# Altium schematic symbol library DriverBoard.SchLib: 36 symbols
Pins are listed as number, name and electrical type; pins without a type are passive.

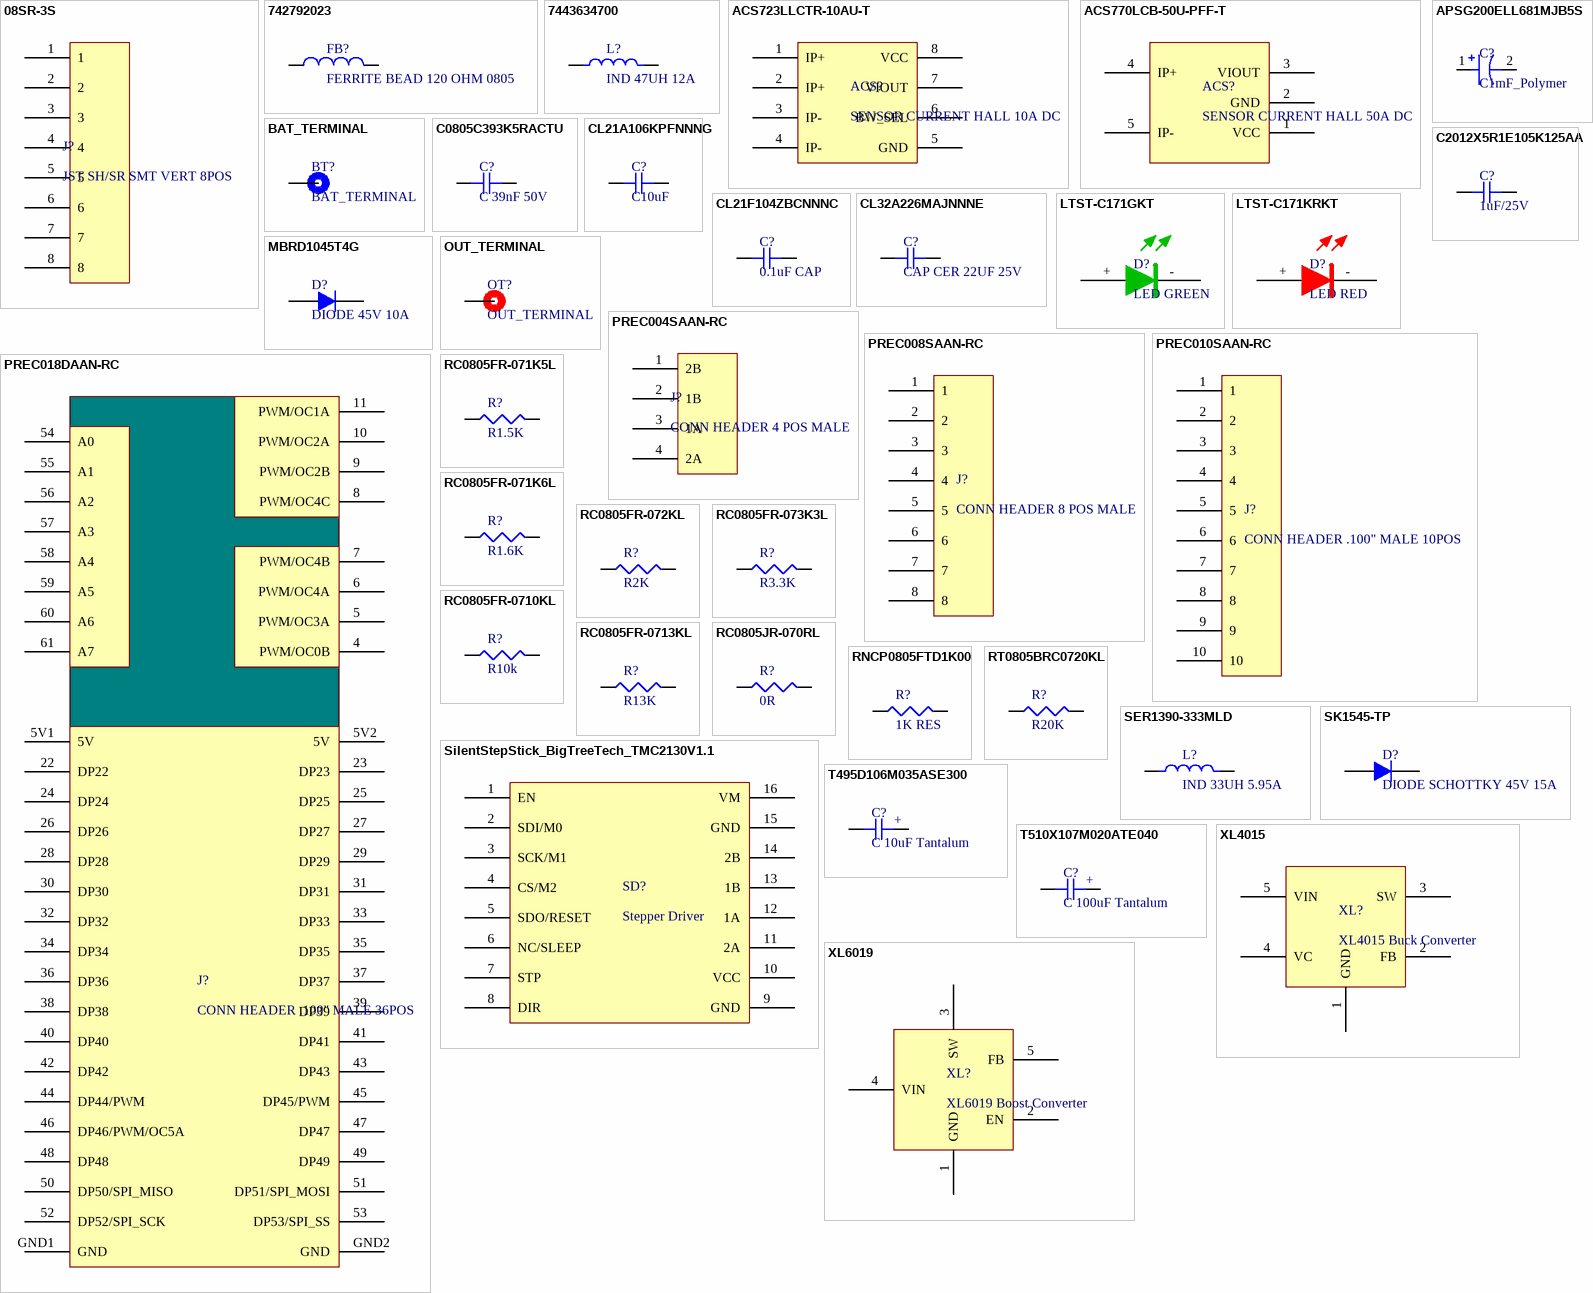
[diagram p0: symbols 08SR-3S to XL6019]

## 08SR-3S
designator J?, comment JST SH/SR SMT VERT 8POS
CONN RCPT SR 8 POS 1.0MM TIN; Manufacturer Part Number: 08SR-3S; Connector Type: Receptacle; Number of Positions: 8; Pitch: 0.039" (1.00mm); Cable Termination: IDC; Wire Type: Discrete; Wire Gauge: 30 AWG; Supplier 1: Digi-Key; Manufacturer: JST; Stock 1: 1705; Pricing 1: 1=0.55, 10=0.512, 25=0.4612, 50=0.4098, 100=0.3928, 250=0.3586, 500=0.3416, 1000=0.2818, 2500=0.2562 (USD); Category: Connectors, Interconnects; Family: Rectangular Connectors - Free Hanging, Panel Mount; Series: SR; Packaging: Bulk; Contact Type: Female Socket; Number of Rows: 1; Row Spacing: -; Mounting Type: Free Hanging (In-Line); Fastening Type: -; Features: Closed End; Contact Finish: Tin; Contact Finish Thickness: -; Color: Natural; ComponentLink1URL: http://www.jst-mfg.com/product/pdf/eng/eSR.pdf?src-supplier=Digi-Key; ComponentLink1Description: http://www.jst-mfg.com/product/pdf/eng/eSR.pdf?src-supplier=Digi-Key; Supplier Part Number 1: 455-2189-ND
footprint JST_SH_8
pins: 1, 2, 3, 4, 5, 6, 7, 8

## 742792023
designator FB?, comment FERRITE BEAD 120 OHM 0805
FERRITE BEAD 120 OHM 0805 1LN; Manufacturer: Wurth Electronics; Manufacturer Part Number: 742792023; Current Rating: 3A; Inductance: 1H; Tolerance: 25%; Impedance: 120R; Number of Lines: 1; DC Resistance (DCR): 30mR; Test Frequency: 100MHz; Shielding: Unshielded; Supplier 1: Digi-Key; Stock 1: 64621; Pricing 1: 1=0.22, 50=0.21, 100=0.193, 500=0.185, 1000=0.176, 2000=0.168 (USD); Mount: Surface Mount; Case/Package: SMD/SMT; Weight: 0.000388oz; Core Material: Ferrite; Case Code (Metric): 2012; Case Code (Imperial): 0805; Min Operating Temperature: -55°C; Max Operating Temperature: 125°C; Package Quantity: 1; Packaging: Tape and Reel; Max Current Rating: 3A; Max DC Current: 3A; Termination: SMD/SMT; Length: 2mm; Height: 0.9mm; Width: 0.047inch; Depth: 1.2mm; REACH SVHC: Unknown; Lead Free: Lead Free; ComponentLink1URL: https://katalog.we-online.de/pbs/datasheet/742792023.pdf?src-supplier=Digi-Key; ComponentLink1Description: https://katalog.we-online.de/pbs/datasheet/742792023.pdf?src-supplier=Digi-Key; ComponentLink2URL: http://www.farnell.com/datasheets/1695980.pdf?src-supplier=Element14; ComponentLink2Description: http://www.farnell.com/datasheets/1695980.pdf?src-supplier=Element14; ComponentLink3URL: http://www.farnell.com/datasheets/1919974.pdf?src-supplier=Newark; ComponentLink3Description: http://www.farnell.com/datasheets/1919974.pdf?src-supplier=Newark; ComponentLink4URL: http://documents.rs-components.com/techlib://itc_doclist_GB.htm?stockno=3586771&src-supplier=RSComponents; ComponentLink4Description: http://documents.rs-components.com/techlib://itc_doclist_GB.htm?stockno=3586771&src-supplier=RSComponents; ComponentLink5URL: http://www.mouser.com/ds/2/445/742792023-537937.pdf?src-supplier=Mouser; ComponentLink5Description: http://www.mouser.com/ds/2/445/742792023-537937.pdf?src-supplier=Mouser; ComponentLink6URL: http://www.produktinfo.conrad.com/datenblaetter/1000000-1099999/001086956-da-01-ml-WE_CBF_SMD_FERRIT_742792023_de_en.pdf?src-supplier=Conrad; ComponentLink6Description: http://www.produktinfo.conrad.com/datenblaetter/1000000-1099999/001086956-da-01-ml-WE_CBF_SMD_FERRIT_742792023_de_en.pdf?src-supplier=Conrad; Supplier Part Number 1: 732-1613-1-ND
footprint FB_0805
pins: 1, 2

## 7443634700
designator L?, comment IND 47UH 12A
FIXED IND 47UH 12A 12.2 MOHM SMD; Manufacturer: Wurth Electronics; Manufacturer Part Number: 7443634700; Featured Product: WE-HCF SMD High-Current Inductor; 3D Model: WE-HCF_2013.igs WE-HCF_2013.stp; Type: Wirewound; Material - Core: Ferrite; Inductance: 47µH; Tolerance: ±15%; Current - Saturation: 8.5A; Shielding: Shielded; Frequency - Self Resonant: 10MHz; Frequency - Test: 100kHz; Online Catalog: WE-HCF 2013 Series; Related Products: 296-27163-5-ND / - IC REG CTRLR MULT TOP 20TSSOP / 296-24092-2-ND / - IC REG CTRLR MULT TOP 20TSSOP / 296-24092-1-ND / - IC REG CTRLR MULT TOP 20TSSOP / 296-24092-6-ND / - IC REG CTRLR MULT TOP 20TSSOP; Other Names: 732-2525-1; Supplier 1: Digi-Key; Stock 1: 1344; Pricing 1: 1=6.93, 10=6.804, 50=6.048 (USD); Standard Package: 1; Category: Inductors, Coils, Chokes; Family: Fixed Inductors; Series: WE-HCF; Packaging: Cut Tape (CT); Current Rating: 12A; DC Resistance (DCR): 12.2 mOhm; Operating Temperature: -40°C ~ 125°C; Mounting Type: Surface Mount; Package / Case: Nonstandard; Size / Dimension: 0.858" L x 0.846" W (21.80mm x 21.50mm); Height - Seated (Max): 0.571" (14.50mm); ComponentLink1URL: http://www.farnell.com/datasheets/1243408.pdf?src-supplier=Newark; ComponentLink1Description: http://www.farnell.com/datasheets/1243408.pdf?src-supplier=Newark; ComponentLink2URL: http://katalog.we-online.de/pbs/datasheet/7443634700.pdf?src-supplier=Digi-Key; ComponentLink2Description: http://katalog.we-online.de/pbs/datasheet/7443634700.pdf?src-supplier=Digi-Key; ComponentLink3URL: http://www.mouser.com/ds/2/445/7443634700-538650.pdf?src-supplier=Mouser; ComponentLink3Description: http://www.mouser.com/ds/2/445/7443634700-538650.pdf?src-supplier=Mouser; ComponentLink4URL: http://documents.rs-components.com/techlib://itc_doclist_GB.htm?stockno=7445062&src-supplier=RSComponents; ComponentLink4Description: http://documents.rs-components.com/techlib://itc_doclist_GB.htm?stockno=7445062&src-supplier=RSComponents; ComponentLink5URL: http://www.farnell.com/datasheets/1735814.pdf?src-supplier=Element14; ComponentLink5Description: http://www.farnell.com/datasheets/1735814.pdf?src-supplier=Element14; Supplier Part Number 1: 732-2525-1-ND
footprint 22X22X15IND
pins: 1, 2

## ACS723LLCTR-10AU-T
designator ACS?, comment SENSOR CURRENT HALL 10A DC
Manufacturer: Allegro MicroSystems; Manufacturer Part Number: ACS723LLCTR-10AU-T; Sensor Type: Hall Effect, Open Loop; Number of Channels: 1; Output: Ratiometric, Voltage; Sensitivity: 400mV/A; Frequency: DC ~ 80kHz; Linearity: ±1%; Accuracy: ±3%; Voltage - Supply: 5V; Response Time: 5µs; Current - Supply (Max): 14mA; Polarization: Unidirectional; Supplier 1: Digi-Key; Stock 1: 1781; Pricing 1: 1=5.27, 5=4.654, 10=4.11, 25=3.3348, 50=2.947, 100=2.8694, 500=2.4041, 1000=2.249 (USD); Category: Sensors, Transducers; Family: Current Transducers; Series: -; Packaging: Tape & Reel (TR); For Measuring: DC; Current - Sensing: 10A; Operating Temperature: -40°C ~ 150°C; Mounting Type: Surface Mount; Package / Case: 8-SOIC (0.154", 3.90mm Width); ComponentLink1URL: http://www.allegromicro.com/~/media/Files/Datasheets/ACS723-Datasheet.ashx?src-supplier=Digi-Key; ComponentLink1Description: http://www.allegromicro.com/~/media/Files/Datasheets/ACS723-Datasheet.ashx?src-supplier=Digi-Key; ComponentLink2URL: https://www.allegromicro.com/~/media/Files/Datasheets/ACS723-Datasheet.ashx?src-supplier=Digi-Key; ComponentLink2Description: https://www.allegromicro.com/~/media/Files/Datasheets/ACS723-Datasheet.ashx?src-supplier=Digi-Key; Supplier Part Number 1: 620-1643-1-ND
footprint SOIC_8
pins: 1 IP+, 2 IP+, 3 IP-, 4 IP-, 5 GND, 6 BW_SEL, 7 VIOUT, 8 VCC

## ACS770LCB-50U-PFF-T
designator ACS?, comment SENSOR CURRENT HALL 50A DC
Manufacturer: Allegro MicroSystems; Manufacturer Part Number: ACS770LCB-50U-PFF-T; Number of Channels: 1; Frequency: 120kHz; Response Time: 4.6us; Max Supply Current: 15mA; Polarity: Unidirectional; Linearity: 1%; Accuracy: 0.6%; Sensitivity: 80mV/A; Quiescent Current: 10mA; Supplier 1: Digi-Key; Stock 1: 1184; Pricing 1: 1=7.18, 5=6.3, 10=5.67, 34=5.04, 68=4.6621, 102=4.032, 510=3.78, 1020=3.528 (USD); Mount: Through Hole; Number of Pins: 5; Min Operating Temperature: -40°C; Max Operating Temperature: 150°C; Packaging: Rail/Tube; Current Sensing: 50A; Package Quantity: 34; Bandwidth: 120kHz; Supplier Part Number 1: 620-1542-5-ND
footprint PFF5
pins: 1 VCC, 2 GND, 3 VIOUT, 4 IP+, 5 IP-

## APSG200ELL681MJB5S
designator C?, comment C1mF_Polymer
Cap Aluminum Polymer 680uF 20VDC 20% (10 X 11.5mm) Radial 5mm 0.012 Ohm 5400mA 2000h 105C Bulk; Manufacturer: United Chemi-Con; Manufacturer Part Number: APSG200ELL681MJB5S; Featured Product: Chemi-Con / PSG Series; Capacitance: 680µF; Voltage Rating: 20V; Lifetime @ Temp.: 15000 Hrs @ 105°C; Online Catalog: NPCAP™ PSG Series; Other Names: 565-3623 APSG200ELL681MJB5S-ND; Supplier 1: Digi-Key; Stock 1: 499; Pricing 1: 1=2.14, 10=1.73, 100=1.3209, 500=1.0064, 1000=0.8806, 2500=0.8554 (USD); Standard Package: 500; Category: Capacitors; Family: Aluminum - Polymer Capacitors; Series: NPCAP™-PSG; Packaging: Bulk; Tolerance: ±20%; ESR (Equivalent Series Resistance): -; Operating Temperature: -55°C ~ 105°C; Type: Polymer; Applications: -; Ripple Current: -; Impedance: -; Lead Spacing: 0.197" (5.00mm); Size / Dimension: 0.394" Dia (10.00mm); Height - Seated (Max): 0.512" (13.00mm); Surface Mount Land Size: -; Mounting Type: Through Hole; Package / Case: Radial, Can; Supplier Part Number 1: 565-3623-ND
footprint POLY_CAP_10X21
pins: 1, 2

## BAT_TERMINAL
designator BT?
footprint BATTERY_TERMINALS
pins: 1

## C0805C393K5RACTU
designator C?, comment C 39nF 50V
Multilayer Ceramic Capacitors 50volts 39000pF X7R 10%; Manufacturer: KEMET; Manufacturer Part Number: C0805C393K5RACTU; Capacitance Value: 0.039 uF; Voltage: 50 Vdc; Product Length: 2 mm; Product Height: 0.78 mm; Product Depth: 1.25 mm; Supplier 1: Digi-Key; Stock 1: 17723; Pricing 1: 1=0.23, 10=0.155, 100=0.0784, 500=0.0536, 1000=0.0474 (USD); Package/Case: 0805; Mounting: Surface Mount; Tolerance: 10 %; Dielectric: X7R; Operating Temperature: -55 to 125 °C; Construction: Flat; Category: Capacitor Ceramic Multilayer; ComponentLink1URL: http://www.mouser.com/ds/2/212/KEM_C1002_X7R_SMD-1102033.pdf?src-supplier=Mouser; ComponentLink1Description: http://www.mouser.com/ds/2/212/KEM_C1002_X7R_SMD-1102033.pdf?src-supplier=Mouser; Supplier Part Number 1: 399-8076-1-ND
footprint C0805
pins: 1, 2

## C2012X5R1E105K125AA
designator C?, comment 1uF/25V
CAP CER 1UF 25V X5R 0805; Manufacturer: TDK Corporation; Manufacturer Part Number: C2012X5R1E105K125AA; Tolerance: ±10%; Notification: Current market demand for these product types have resulted in fluctuating and extending lead times. Lead times may differ.; Supplier 1: Digi-Key; RoHS: RoHS Compliant; Category: Capacitors; Stock 1: 774565; Pricing 1: 1=0.18, 10=0.129, 100=0.0605, 500=0.04244, 1000=0.03514 (USD); Packaging: Cut Tape (CT); Part Status: Not For New Designs; Voltage - Rated: 25V; Temperature Coefficient: X5R; Operating Temperature: -55°C ~ 85°C; Features: Low ESL; Ratings: -; Applications: General Purpose; Failure Rate: -; Mounting Type: Surface Mount, MLCC; Package / Case: 0805 (2012 Metric); Size / Dimension: 0.079" L x 0.049" W (2.00mm x 1.25mm); Height - Seated (Max): -; Thickness (Max): 0.057" (1.45mm); Lead Spacing: -; Lead Style: -; ComponentLink1URL: https://product.tdk.com/info/en/catalog/datasheets/mlcc_commercial_general_en.pdf; ComponentLink1Description: https://product.tdk.com/info/en/catalog/datasheets/mlcc_commercial_general_en.pdf; Supplier Part Number 1: 445-1419-1-ND
footprint C0805
pins: 1, 2

## CL21A106KPFNNNG
designator C?, comment C10uF
Cap Ceramic 10uF 10V X5R 10% SMD 0805 85C Embossed T/R; Manufacturer: Samsung; Manufacturer Part Number: CL21A106KPFNNNG; Supplier 1: Digi-Key; Stock 1: 184536; Pricing 1: 1=0.14, 10=0.1, 100=0.0469, 500=0.0329, 1000=0.0272 (USD); Mount: Surface Mount; Case/Package: 0805; Case Code (Metric): 2012; Case Code (Imperial): 0805; Min Operating Temperature: -55°C; Max Operating Temperature: 85°C; Capacitance: 10uF; Tolerance: 10%; Dielectric: X5R; Voltage: 10V; Voltage Rating: 10V; Packaging: Tape and Reel; Package Quantity: 3000; Termination: Wraparound; Length: 2mm; Height: 1.25mm; Depth: 1.25mm; Width: 0.049inch; Thickness: 0.053inch; Radiation Hardening: No; Lead Free: Lead Free; ComponentLink1URL: http://www1.futureelectronics.com/doc/SAMSUNG/CL21A106KPFNNNG.pdf?src-supplier=Future+Electronics; ComponentLink1Description: http://www1.futureelectronics.com/doc/SAMSUNG/CL21A106KPFNNNG.pdf?src-supplier=Future+Electronics; ComponentLink2URL: https://www.verical.com/server-webapp/html/getDatasheet?partID=640497&src-supplier=Verical; ComponentLink2Description: https://www.verical.com/server-webapp/html/getDatasheet?partID=640497&src-supplier=Verical; Supplier Part Number 1: 1276-6456-1-ND
footprint C0805
pins: 1, 2

## CL21F104ZBCNNNC
designator C?, comment 0.1uF CAP
Cap Ceramic 0.1uF 50V Y5V -20% to 80% SMD 0805 85C Paper T/R; Manufacturer: Samsung; Manufacturer Part Number: CL21F104ZBCNNNC; Capacitance: 100nF; Supplier 1: Digi-Key; Stock 1: 5269056; Pricing 1: 1=0.1, 10=0.044, 100=0.0195, 500=0.0139, 1000=0.0109 (USD); Mount: Surface Mount; Case/Package: 0805; Case Code (Metric): 2012; Case Code (Imperial): 0805; Material: Ceramic; Min Operating Temperature: -30°C; Max Operating Temperature: 85°C; Packaging: Tape and Reel; Tolerance: 80%; Voltage Rating: 50V; Package Quantity: 1; Dielectric: Y5V; Length: 2mm; Height: 0.85mm; Width: 0.049inch; Thickness: 0.037inch; Depth: 1.25mm; Radiation Hardening: No; ComponentLink1URL: https://www.verical.com/server-webapp/html/getDatasheet?partID=466953&src-supplier=Verical; ComponentLink1Description: https://www.verical.com/server-webapp/html/getDatasheet?partID=466953&src-supplier=Verical; ComponentLink2URL: https://produktinfo.conrad.com/datenblaetter/450000-474999/454191-da-01-en-VS_KONDENSATOR_0805.pdf?src-supplier=Conrad; ComponentLink2Description: https://produktinfo.conrad.com/datenblaetter/450000-474999/454191-da-01-en-VS_KONDENSATOR_0805.pdf?src-supplier=Conrad; Supplier Part Number 1: 1276-1007-1-ND
footprint C0805
pins: 1, 2

## CL32A226MAJNNNE
designator C?, comment CAP CER 22UF 25V
CAP CER 22UF 25V X5R 1210; Manufacturer: Samsung; Manufacturer Part Number: CL32A226MAJNNNE; Product Training Modules: High Cap MLCC Family; Featured Product: Multi-Layer Ceramic Capacitors; Capacitance: 22µF; Tolerance: ±20%; Online Catalog: CL Series, High Capacitance; Other Names: 1276-3373-2; Supplier 1: Digi-Key; Stock 1: 57875; Pricing 1: 1=0.58, 10=0.412, 100=0.2715, 500=0.2011 (USD); RoHS Information: MLCC RoHS 2 Compliance; Standard Package: 1,000; Category: Capacitors; Family: Ceramic Capacitors; Series: CL; Packaging: Tape & Reel (TR); Voltage - Rated: 25V; Temperature Coefficient: X5R; Mounting Type: Surface Mount, MLCC; Operating Temperature: -55°C ~ 85°C; Applications: General Purpose; Ratings: -; Package / Case: 1210 (3225 Metric); Size / Dimension: 0.126" L x 0.098" W (3.20mm x 2.50mm); Height - Seated (Max): -; Thickness (Max): 0.106" (2.70mm); Lead Spacing: -; Features: -; Lead Style: -; ComponentLink1URL: http://www.samsungsem.com/kr/support/product-search/mlcc/CL32A226MAJNNNE.jsp?src-supplier=Digi-Key; ComponentLink1Description: http://www.samsungsem.com/kr/support/product-search/mlcc/CL32A226MAJNNNE.jsp?src-supplier=Digi-Key; Supplier Part Number 1: 1276-3373-1-ND
footprint C1210
pins: 1, 2

## LTST-C171GKT
designator D?, comment LED GREEN
LED GREEN CLEAR CHIP SMD; Manufacturer: Vishay Lite-On; Manufacturer Part Number: LTST-C171GKT; Lens Color: Colorless; Viewing Angle: 130°; Lens Style: Diffused,Colorless,Rectangular,Clear; Luminous Intensity: 12mcd; Forward Current: 30mA; Forward Voltage: 2.1V; Power Rating: 100mW; Dominant Wavelength: 569nm; Test Current: 10mA; Number of Elements: 1; Wavelength: 585nm; Reverse Voltage: 5V; Supplier 1: Digi-Key; Stock 1: 262269; Pricing 1: 1=0.29, 10=0.211, 25=0.1556, 100=0.1111, 250=0.0756, 500=0.0667, 1000=0.0522 (USD); Mount: Surface Mount; Case/Package: 0805; Number of Pins: 2; Color: Green; Case Code (Metric): 2012; Case Code (Imperial): 0805; Min Operating Temperature: -55°C; Max Operating Temperature: 85°C; Package Quantity: 1; Packaging: Tape and Reel; Illumination Color: Green; Lens Transparency: Clear; Power Dissipation: 100mW; Number of LEDs: 1; Length: 2mm; Height: 0.8mm; Width: 1.25mm; Depth: 1.25mm; Radiation Hardening: No; Lead Free: Lead Free; ComponentLink1URL: https://media.digikey.com/pdf/Data%20Sheets/Lite-On%20PDFs/LTST-C171GKT.pdf?src-supplier=Digi-Key; ComponentLink1Description: https://media.digikey.com/pdf/Data%20Sheets/Lite-On%20PDFs/LTST-C171GKT.pdf?src-supplier=Digi-Key; ComponentLink2URL: http://www1.futureelectronics.com/doc/LITE-ON/LTST-C171GKT.pdf?src-supplier=Future+Electronics; ComponentLink2Description: http://www1.futureelectronics.com/doc/LITE-ON/LTST-C171GKT.pdf?src-supplier=Future+Electronics; ComponentLink3URL: http://uk.rs-online.com/webdocs/0dc0/0900766b80dc0296.pdf?src-supplier=RSComponents; ComponentLink3Description: http://uk.rs-online.com/webdocs/0dc0/0900766b80dc0296.pdf?src-supplier=RSComponents; ComponentLink4URL: http://www.mouser.com/ds/2/239/Lite-On-LTST-C171GKT-190133.pdf?src-supplier=Mouser; ComponentLink4Description: http://www.mouser.com/ds/2/239/Lite-On-LTST-C171GKT-190133.pdf?src-supplier=Mouser; Supplier Part Number 1: 160-1423-1-ND
footprint LED_0805
pins: +, -

## LTST-C171KRKT
designator D?, comment LED RED
LED RED CLEAR SMD; Manufacturer: Vishay Lite-On; Manufacturer Part Number: LTST-C171KRKT; Chip Material: AlGaInP; DELETED: Compliant; Dominant Wave Length: 631 nm; Forward Current: 30 mA; Forward Voltage: 2.4 V; High Brightness: Yes; Lum Intensity: 54mcd; Main Category: Chip LED; Number of  Elements: 1; Peak Wavelength: 639 nm; Power Dissipation: 75 W; Product Depth (mm): 1.25 mm; Product Height (mm): 0.8 mm; Product Length (mm): 2 mm; Rad Hardened: No; Reverse Voltage: 5 V; Shape Type: Rectangular; Test Current (It): 20 mA; Type: Uni-Color; Viewing Angle: 130 deg; Supplier 1: Digi-Key; Stock 1: 82154; Pricing 1: 1=0.29, 10=0.215, 100=0.1016, 500=0.0677, 1000=0.0531 (USD); Emitting Color: Red; Lens Dimensions: 1.4x1.25x0.5 mm; Luminous Intensity: 54mcd; Mounting: Surface Mount; Operating Temp Range: -55C to 85C; Operating Temperature Classification: Industrial; Package Type: Chip Led; Packaging: Tape and Reel; Pin Count: 2; ComponentLink1URL: http://optoelectronics.liteon.com/upload/download/DS22-2000-109/LTST-C171KRKT.pdf?src-supplier=Digi-Key; ComponentLink1Description: http://optoelectronics.liteon.com/upload/download/DS22-2000-109/LTST-C171KRKT.pdf?src-supplier=Digi-Key; ComponentLink2URL: http://www.mouser.com/ds/2/239/Lite-On-LTST-C171KRKT-187201.pdf?src-supplier=Mouser; ComponentLink2Description: http://www.mouser.com/ds/2/239/Lite-On-LTST-C171KRKT-187201.pdf?src-supplier=Mouser; ComponentLink3URL: http://uk.rs-online.com/webdocs/0dc0/0900766b80dc0550.pdf?src-supplier=RSComponents; ComponentLink3Description: http://uk.rs-online.com/webdocs/0dc0/0900766b80dc0550.pdf?src-supplier=RSComponents; ComponentLink4URL: http://www1.futureelectronics.com/doc/LITE%20ON/LITE-ON%20LTST-C171KRKT.pdf?src-supplier=Future+Electronics; ComponentLink4Description: http://www1.futureelectronics.com/doc/LITE%20ON/LITE-ON%20LTST-C171KRKT.pdf?src-supplier=Future+Electronics; Supplier Part Number 1: 160-1427-1-ND
footprint LED_0805
pins: +, -

## MBRD1045T4G
designator D?, comment DIODE 45V 10A
DIODE SCHOTTKY 45V 10A DPAK; Manufacturer: ON Semiconductor; Manufacturer Part Number: MBRD1045T4G; PCN Assembly/Origin: Qualification Assembly/Test Site 13/Mar/2014; Voltage - Forward (Vf) (Max) @ If: 840mV @ 20A; Speed: Fast Recovery =  200mA (Io); Current - Reverse Leakage @ Vr: 100µA @ 45V; Online Catalog: Schottky Diode; Other Names: MBRD1045T4GOSDKR; Supplier 1: Digi-Key; Stock 1: 4441; Pricing 1: 1=0.72, 10=0.631, 100=0.4299, 500=0.3592, 1000=0.3057 (USD); Standard Package: 1; Category: Discrete Semiconductor Products; Family: Diodes, Rectifiers - Single; Series: SWITCHMODE™; Packaging: Digi-Reel®; Diode Type: Schottky; Voltage - DC Reverse (Vr) (Max): 45V; Current - Average Rectified (Io): 10A; Reverse Recovery Time (trr): -; Capacitance @ Vr, F: -; Mounting Type: Surface Mount; Package / Case: TO-252-3, DPak (2 Leads + Tab), SC-63; Supplier Device Package: DPAK; Operating Temperature - Junction: -65°C ~ 175°C; ComponentLink1URL: http://www.onsemi.cn/pub_link/Collateral/MBRB1045-D.PDF?src-supplier=Avnet; ComponentLink1Description: http://www.onsemi.cn/pub_link/Collateral/MBRB1045-D.PDF?src-supplier=Avnet; ComponentLink2URL: http://uk.rs-online.com/webdocs/1221/0900766b812212c8.pdf?src-supplier=RSComponents; ComponentLink2Description: http://uk.rs-online.com/webdocs/1221/0900766b812212c8.pdf?src-supplier=RSComponents; ComponentLink3URL: http://www.onsemi.com/pub/Collateral/MBRB1045-D.PDF?src-supplier=Future+Electronics; ComponentLink3Description: http://www.onsemi.com/pub/Collateral/MBRB1045-D.PDF?src-supplier=Future+Electronics; ComponentLink4URL: http://www.onsemi.com/pub/Collateral/MBRB1045-D.PDF?src-supplier=Digi-Key; ComponentLink4Description: http://www.onsemi.com/pub/Collateral/MBRB1045-D.PDF?src-supplier=Digi-Key; ComponentLink5URL: http://www.onsemi.cn/pub_link/Collateral/MBRB1045-D.PDF?src-supplier=Avnet+Europe; ComponentLink5Description: http://www.onsemi.cn/pub_link/Collateral/MBRB1045-D.PDF?src-supplier=Avnet+Europe; ComponentLink6URL: http://datasheet.iiic.cc/on_semiconductor/MBRD1045T4G.pdf?src-supplier=IIIC; ComponentLink6Description: http://datasheet.iiic.cc/on_semiconductor/MBRD1045T4G.pdf?src-supplier=IIIC; Supplier Part Number 1: MBRD1045T4GOSCT-ND
footprint TO252_3
pins: 1, 2

## OUT_TERMINAL
designator OT?
footprint OUTPUT_TERMINALS
pins: 1

## PREC004SAAN-RC
designator J?, comment CONN HEADER 4 POS MALE
CONN HEADER VERT 4POS 2.54MM; Manufacturer: Sullins; Manufacturer Part Number: PREC004SAAN-RC; Connector Type: Header, Unshrouded, Breakaway; Number of Positions: 4; Number of Positions Loaded: All; Pitch: 0.100" (2.54mm); Online Catalog: 0.100" (2.54mm) Pitch Connector Headers; Other Names: S9499E-04  S9499E-04-ND; Supplier 1: Digi-Key; Stock 1: 2480; Pricing 1: 1=0.12, 10=0.112, 25=0.0832, 50=0.0712, 100=0.0689, 250=0.0594, 500=0.057 (USD); Standard Package: 1; Category: Connectors, Interconnects; Family: Rectangular Connectors - Headers, Male Pins; Series: -; Packaging: Bulk; Contact Type: Male Pin; Number of Rows: 1; Row Spacing: -; Contact Mating Length: 0.230" (5.84mm); Mounting Type: Through Hole; Termination: Solder; Fastening Type: -; Features: -; Contact Finish: Tin; Contact Finish Thickness: -; Color: Black; ComponentLink1URL: https://media.digikey.com/PDF/Data%20Sheets/Sullins%20PDFs/z%20RzCzzzSzzN-RC,%20ST,11635-B.pdf?src-supplier=Digi-Key; ComponentLink1Description: https://media.digikey.com/PDF/Data%20Sheets/Sullins%20PDFs/z%20RzCzzzSzzN-RC,%20ST,11635-B.pdf?src-supplier=Digi-Key; Supplier Part Number 1: S1012EC-04-ND
footprint DIP4
pins: 1 2B, 2 1B, 3 1A, 4 2A

## PREC008SAAN-RC
designator J?, comment CONN HEADER 8 POS MALE
Manufacturer: Sullins; Manufacturer Part Number: PREC008SAAN-RC; Connector Type: Header, Unshrouded, Breakaway; Number of Positions: 8; Number of Positions Loaded: All; Pitch: 0.100" (2.54mm); Online Catalog: 0.100" (2.54mm) Pitch Connector Headers; Other Names: S9499E-08  S9499E-08-ND; Supplier 1: Digi-Key; Stock 1: 3273; Pricing 1: 1=0.19, 10=0.178, 25=0.152, 50=0.133, 100=0.1236, 250=0.1093, 500=0.1045 (USD); Standard Package: 1; Category: Connectors, Interconnects; Family: Rectangular Connectors - Headers, Male Pins; Series: -; Packaging: Bulk; Contact Type: Male Pin; Number of Rows: 1; Row Spacing: -; Contact Mating Length: 0.230" (5.84mm); Mounting Type: Through Hole; Termination: Solder; Fastening Type: -; Features: -; Contact Finish: Tin; Contact Finish Thickness: -; Color: Black; ComponentLink1URL: https://media.digikey.com/PDF/Data%20Sheets/Sullins%20PDFs/z%20RzCzzzSzzN-RC,%20ST,11635-B.pdf?src-supplier=Digi-Key; ComponentLink1Description: https://media.digikey.com/PDF/Data%20Sheets/Sullins%20PDFs/z%20RzCzzzSzzN-RC,%20ST,11635-B.pdf?src-supplier=Digi-Key; Supplier Part Number 1: S1012EC-08-ND
footprint DIP8_MALE
pins: 1, 2, 3, 4, 5, 6, 7, 8

## PREC010SAAN-RC
designator J?, comment CONN HEADER .100" MALE 10POS
CONN HEADER .100" SNGL STR 10POS; Manufacturer: Sullins; Manufacturer Part Number: PREC010SAAN-RC; Connector Type: Header, Unshrouded, Breakaway; Number of Positions: 10; Number of Positions Loaded: All; Pitch: 0.100" (2.54mm); Online Catalog: 0.100" (2.54mm) Pitch Connector Headers; Other Names: S9499E-10  S9499E-10-ND; Supplier 1: Digi-Key; Stock 1: 2265; Pricing 1: 1=0.24, 10=0.223, 25=0.19, 50=0.1664, 100=0.1544, 250=0.1366, 500=0.1307 (USD); Standard Package: 1; Category: Connectors, Interconnects; Family: Rectangular Connectors - Headers, Male Pins; Series: -; Packaging: Bulk; Contact Type: Male Pin; Number of Rows: 1; Row Spacing: -; Contact Mating Length: 0.230" (5.84mm); Mounting Type: Through Hole; Termination: Solder; Fastening Type: -; Features: -; Contact Finish: Tin; Contact Finish Thickness: -; Color: Black; ComponentLink1URL: https://media.digikey.com/PDF/Data%20Sheets/Sullins%20PDFs/z%20RzCzzzSzzN-RC,%20ST,11635-B.pdf?src-supplier=Digi-Key; ComponentLink1Description: https://media.digikey.com/PDF/Data%20Sheets/Sullins%20PDFs/z%20RzCzzzSzzN-RC,%20ST,11635-B.pdf?src-supplier=Digi-Key; Supplier Part Number 1: S1012EC-10-ND
footprint DIP10_MALE
pins: 1, 2, 3, 4, 5, 6, 7, 8, 9, 10

## PREC018DAAN-RC
designator J?, comment CONN HEADER .100" MALE 36POS
CONN HEADER .100" DUAL STR 36POS; Manufacturer: Sullins; Manufacturer Part Number: PREC018DAAN-RC; Connector Type: Header, Unshrouded, Breakaway; Number of Positions: 36; Number of Positions Loaded: All; Pitch: 0.100" (2.54mm); Online Catalog: 0.100" (2.54mm) Pitch Connector Headers; Other Names: S9500E-18  S9500E-18-ND; Supplier 1: Digi-Key; Stock 1: 154; Pricing 1: 1=0.69, 10=0.643, 25=0.5788, 50=0.5146, 100=0.4931, 250=0.4502, 500=0.4288 (USD); Standard Package: 1; Category: Connectors, Interconnects; Family: Rectangular Connectors - Headers, Male Pins; Series: -; Packaging: Bulk; Contact Type: Male Pin; Number of Rows: 2; Row Spacing: 0.100" (2.54mm); Contact Mating Length: 0.230" (5.84mm); Mounting Type: Through Hole; Termination: Solder; Fastening Type: -; Features: -; Contact Finish: Tin; Contact Finish Thickness: -; Color: Black; ComponentLink1URL: https://drawings-pdf.s3.amazonaws.com/11636.pdf?src-supplier=Digi-Key; ComponentLink1Description: https://drawings-pdf.s3.amazonaws.com/11636.pdf?src-supplier=Digi-Key; Supplier Part Number 1: S2012EC-18-ND
footprint DIP36_MALE
pins: 4 PWM/OC0B, 5 PWM/OC3A, 5V1 5V, 5V2 5V, 6 PWM/OC4A, 7 PWM/OC4B, 8 PWM/OC4C, 9 PWM/OC2B, 10 PWM/OC2A, 11 PWM/OC1A, 22 DP22, 23 DP23, 24 DP24, 25 DP25, 26 DP26, 27 DP27, 28 DP28, 29 DP29, 30 DP30, 31 DP31, 32 DP32, 33 DP33, 34 DP34, 35 DP35, 36 DP36, 37 DP37, 38 DP38, 39 DP39, 40 DP40, 41 DP41, 42 DP42, 43 DP43, 44 DP44/PWM, 45 DP45/PWM, 46 DP46/PWM/OC5A, 47 DP47, 48 DP48, 49 DP49, 50 DP50/SPI_MISO, 51 DP51/SPI_MOSI, 52 DP52/SPI_SCK, 53 DP53/SPI_SS, 54 A0, 55 A1, 56 A2, 57 A3, 58 A4, 59 A5, 60 A6, 61 A7, GND1 GND, GND2 GND

## RC0805FR-071K5L
designator R?, comment R1.5K
RES SMD 1.5K OHM 1% 1/8W 0805; Manufacturer: Yageo; Manufacturer Part Number: RC0805FR-071K5L; Voltage Rating: 150V; Resistor Case Style: 0805 [2012 Metric]; Power Rating: 250mW; Product Range: RC Series; Resistor Element Type: Thick Film; Temperature Coefficient: ± 100ppm/°C; SVHC: To Be Advised; Supplier 1: Digi-Key; Stock 1: 2063144; Pricing 1: 1=0.1, 10=0.04, 100=0.0163, 1000=0.0073, 2500=0.0064 (USD); Resistance: 1.5kohm; Resistance Tolerance: ± 1%; Packaging: Cut Tape; Automotive Qualification Standard: -; MSL: MSL 1 - Unlimited; ComponentLink1URL: http://www.yageo.ru/pdf/RC0805.pdf?src-supplier=Future+Electronics; ComponentLink1Description: http://www.yageo.ru/pdf/RC0805.pdf?src-supplier=Future+Electronics; Supplier Part Number 1: 311-1.50KCRCT-ND
footprint R0805
pins: 1, 2

## RC0805FR-071K6L
designator R?, comment R1.6K
RES SMD 1.6K OHM 1% 1/8W 0805; Manufacturer: Yageo; Manufacturer Part Number: RC0805FR-071K6L; Resistance: 1.6 kOhms; Power Rating: 125 mW (1/8 W); Voltage Rating: 150 V; Temperature Coefficient: 100 PPM / C; Supplier 1: Digi-Key; Stock 1: 362810; Pricing 1: 1=0.1, 10=0.04, 100=0.0163, 1000=0.0073, 2500=0.0064 (USD); Termination Style: SMD/SMT; Product: Thick Film Resistors General Purpose; Tolerance: 1 %; Case Code - in: 0805; Case Code - mm: 2012; Series: RC; Operating Temperature Range: - 55 C to + 155 C; Packaging: Reel; ComponentLink1URL: http://documents.rs-components.com/techlib://itc_doclist_GB.htm?stockno=6183678&src-supplier=RSComponents; ComponentLink1Description: http://documents.rs-components.com/techlib://itc_doclist_GB.htm?stockno=6183678&src-supplier=RSComponents; Supplier Part Number 1: 311-1.60KCRCT-ND
footprint R0805
pins: 1, 2

## RC0805FR-072KL
designator R?, comment R2K
RES SMD 2K OHM 1% 1/8W 0805; Manufacturer: Yageo; Manufacturer Part Number: RC0805FR-072KL; Resistance: 2 kOhms; Power Rating: 125 mW (1/8 W); Voltage Rating: 150 V; Temperature Coefficient: 100 PPM / C; Supplier 1: Digi-Key; Stock 1: 3991887; Pricing 1: 1=0.1, 10=0.04, 100=0.0163, 1000=0.0073, 2500=0.0064 (USD); Termination Style: SMD/SMT; Product: Thick Film Resistors General Purpose; Tolerance: 1 %; Case Code - in: 0805; Case Code - mm: 2012; Series: RC; Operating Temperature Range: - 55 C to + 155 C; Packaging: Reel; ComponentLink1URL: http://www.yageo.com/documents/recent/PYu-RC_Group_51_RoHS_L_10.pdf?src-supplier=Digi-Key; ComponentLink1Description: http://www.yageo.com/documents/recent/PYu-RC_Group_51_RoHS_L_10.pdf?src-supplier=Digi-Key; ComponentLink2URL: http://www.yageo.com/documents/recent/PYu-RC_Group_51_RoHS_L_9.pdf?src-supplier=Digi-Key; ComponentLink2Description: http://www.yageo.com/documents/recent/PYu-RC_Group_51_RoHS_L_9.pdf?src-supplier=Digi-Key; ComponentLink3URL: http://documents.rs-components.com/techlib://itc_doclist_GB.htm?stockno=6182912&src-supplier=RSComponents; ComponentLink3Description: http://documents.rs-components.com/techlib://itc_doclist_GB.htm?stockno=6182912&src-supplier=RSComponents; ComponentLink4URL: http://www.farnell.com/datasheets/2167052.pdf?src-supplier=Element14; ComponentLink4Description: http://www.farnell.com/datasheets/2167052.pdf?src-supplier=Element14; ComponentLink5URL: http://www.mouser.com/ds/2/447/Yageo_08112016_RC0805-968729.pdf?src-supplier=Mouser; ComponentLink5Description: http://www.mouser.com/ds/2/447/Yageo_08112016_RC0805-968729.pdf?src-supplier=Mouser; Supplier Part Number 1: 311-2.00KCRCT-ND
footprint R0805
pins: 1, 2

## RC0805FR-073K3L
designator R?, comment R3.3K
RES SMD 3.3K OHM 1% 1/8W 0805; Manufacturer: Yageo; Manufacturer Part Number: RC0805FR-073K3L; Resistance: 3.3 kOhms; Power Rating: 125 mW (1/8 W); Temperature Coefficient: 100 PPM / C; Voltage Rating: 150 V; Unit Weight: 0.000194 oz; Supplier 1: Digi-Key; Stock 1: 641518; Pricing 1: 1=0.1, 10=0.04, 100=0.0163, 1000=0.0073, 2500=0.0064 (USD); Product Category: Thick Film Resistors; RoHS: True; Brand: Yageo; Tolerance: 1 %; Case Code - in: 0805; Case Code - mm: 2012; Operating Temperature Range: - 55 C to + 155 C; Series: RC; Height: 0.5 mm; Length: 2 mm; Package / Case: 0805 (2012 metric); Packaging: Reel; Product: Thick Film Resistors General Purpose; Termination Style: SMD/SMT; Type: General Purpose Chip Resistor Surface Mount; Width: 1.25 mm; ComponentLink1URL: http://www.farnell.com/datasheets/2167052.pdf?src-supplier=Element14; ComponentLink1Description: http://www.farnell.com/datasheets/2167052.pdf?src-supplier=Element14; ComponentLink2URL: http://www.yageo.com/documents/recent/PYu-RC_Group_51_RoHS_L_9.pdf?src-supplier=Digi-Key; ComponentLink2Description: http://www.yageo.com/documents/recent/PYu-RC_Group_51_RoHS_L_9.pdf?src-supplier=Digi-Key; ComponentLink3URL: http://www.yageo.com/documents/recent/PYu-RC_Group_51_RoHS_L_10.pdf?src-supplier=Digi-Key; ComponentLink3Description: http://www.yageo.com/documents/recent/PYu-RC_Group_51_RoHS_L_10.pdf?src-supplier=Digi-Key; ComponentLink4URL: http://www.yageo.ru/pdf/RC0805.pdf?src-supplier=Future+Electronics; ComponentLink4Description: http://www.yageo.ru/pdf/RC0805.pdf?src-supplier=Future+Electronics; ComponentLink5URL: http://www.mouser.com/ds/2/447/RC0805-257173.pdf?src-supplier=Mouser; ComponentLink5Description: http://www.mouser.com/ds/2/447/RC0805-257173.pdf?src-supplier=Mouser; Supplier Part Number 1: 311-3.30KCRCT-ND
footprint R0805
pins: 1, 2

## RC0805FR-0710KL
designator R?, comment R10k
RES SMD 10K OHM 1% 1/8W 0805; Manufacturer: Yageo; Manufacturer Part Number: RC0805FR-0710KL; Power (Watts): 0.125W, 1/8W; Temperature Coefficient: ±100ppm/°C; Supplier 1: Digi-Key; RoHS: RoHS Compliant; Category: Resistors; Stock 1: 19497418; Pricing 1: 1=0.1, 10=0.022, 100=0.0088, 1000=0.00396, 2500=0.00344 (USD); Packaging: Cut Tape (CT); Part Status: Active; Tolerance: ±1%; Composition: Thick Film; Features: Moisture Resistant; Operating Temperature: -55°C ~ 155°C; Package / Case: 0805 (2012 Metric); Supplier Device Package: 0805; Size / Dimension: 0.079" L x 0.049" W (2.00mm x 1.25mm); Height - Seated (Max): 0.024" (0.60mm); Failure Rate: -; ComponentLink1URL: http://www.yageo.com/documents/recent/PYu-RC_Group_51_RoHS_L_8.pdf; ComponentLink1Description: http://www.yageo.com/documents/recent/PYu-RC_Group_51_RoHS_L_8.pdf; Supplier Part Number 1: 311-10.0KCRCT-ND
footprint R0805
pins: 1, 2

## RC0805FR-0713KL
designator R?, comment R13K
RES SMD 13K OHM 1% 1/8W 0805; Manufacturer: Yageo; Manufacturer Part Number: RC0805FR-0713KL; Product Training Modules: Chip Resistor; Catalog Drawings: Thick Film Resistor Side; PCN Other: RC/AC 0603/0805/1206 22/Jan/2013; HTML Datasheet: RC Series, L Suffix Datasheet.html; EDA / CAD Models: Download from Accelerated Designs; Power (Watts): 0.125W, 1/8W; Temperature Coefficient: ±100ppm/°C; Online Catalog: RC0805 Series; Kits: PHC5A-KIT-ND  - RESISTOR KIT 10K-97.6K 1/8W PHC5-KIT-ND  - RESISTOR KIT 10K-97.6K 1/8W; Other Names: 311-13.0KCRCT; Supplier 1: Digi-Key; Stock 1: 335103; Pricing 1: 1=0.1, 10=0.04, 100=0.0163, 1000=0.0073, 2500=0.0064 (USD); Standard Package: 1; Category: Resistors; Family: Chip Resistor - Surface Mount; Series: RC; Packaging: Cut Tape (CT); Resistance (Ohms): 13k; Tolerance: ±1%; Composition: Thick Film; Features: Moisture Resistant; Operating Temperature: -55°C ~ 155°C; Package / Case: 0805 (2012 Metric); Supplier Device Package: 0805; Size / Dimension: 0.079" L x 0.049" W (2.00mm x 1.25mm); Height: 0.024" (0.60mm); Number of Terminations: 2; ComponentLink1URL: http://documents.rs-components.com/techlib://itc_doclist_GB.htm?stockno=6185337&src-supplier=RSComponents; ComponentLink1Description: http://documents.rs-components.com/techlib://itc_doclist_GB.htm?stockno=6185337&src-supplier=RSComponents; ComponentLink2URL: http://www.yageo.com.tw/exep/pages/download/literatures/PYu-R_INT-thick_7.pdf?src-supplier=Digi-Key; ComponentLink2Description: http://www.yageo.com.tw/exep/pages/download/literatures/PYu-R_INT-thick_7.pdf?src-supplier=Digi-Key; ComponentLink3URL: http://www.yageo.com/documents/recent/PYu-RC_Group_51_RoHS_L_9.pdf?src-supplier=Digi-Key; ComponentLink3Description: http://www.yageo.com/documents/recent/PYu-RC_Group_51_RoHS_L_9.pdf?src-supplier=Digi-Key; ComponentLink4URL: http://www.yageo.ru/pdf/RC0805.pdf?src-supplier=Future+Electronics; ComponentLink4Description: http://www.yageo.ru/pdf/RC0805.pdf?src-supplier=Future+Electronics; ComponentLink5URL: https://www.verical.com/server-webapp/html/getDatasheet?partID=329342&src-supplier=Verical; ComponentLink5Description: https://www.verical.com/server-webapp/html/getDatasheet?partID=329342&src-supplier=Verical; Supplier Part Number 1: 311-13.0KCRCT-ND
footprint R0805
pins: 1, 2

## RC0805JR-070RL
designator R?, comment 0R
RES SMD 0 OHM JUMPER 1/8W 0805; Manufacturer: Yageo; Manufacturer Part Number: RC0805JR-070RL; Power (Watts): 0.125W, 1/8W; Supplier 1: Digi-Key; RoHS: RoHS Compliant; Category: Resistors; Stock 1: 699255; Pricing 1: 1=0.1, 10=0.018, 25=0.0128, 50=0.0096, 100=0.0071, 250=0.00544, 500=0.00436, 1000=0.00321 (USD); Packaging: Cut Tape (CT); Part Status: Active; Tolerance: Jumper; Composition: Thick Film; Features: Moisture Resistant; Temperature Coefficient: -; Operating Temperature: -55°C ~ 155°C; Package / Case: 0805 (2012 Metric); Supplier Device Package: 0805; Size / Dimension: 0.079" L x 0.049" W (2.00mm x 1.25mm); Height - Seated (Max): 0.024" (0.60mm); Failure Rate: -; ComponentLink1URL: http://www.yageo.com/documents/recent/PYu-RC_Group_51_RoHS_L_8.pdf; ComponentLink1Description: http://www.yageo.com/documents/recent/PYu-RC_Group_51_RoHS_L_8.pdf; Supplier Part Number 1: 311-0.0ARCT-ND
footprint R0805
pins: 1, 2

## RNCP0805FTD1K00
designator R?, comment 1K RES
RES 1K OHM 1% 1/4W 0805; Manufacturer: Stackpole Electronics; Manufacturer Part Number: RNCP0805FTD1K00; Resistance: 1kR; Power Rating: 250mW; Temperature Coefficient: 100ppm/°C; Supplier 1: Digi-Key; Stock 1: 626879; Pricing 1: 1=0.1, 10=0.072, 100=0.0277, 1000=0.0122, 2500=0.0105 (USD); Mount: Surface Mount; Case/Package: 0805; Case Code (Metric): 2012; Case Code (Imperial): 0805; Min Operating Temperature: -55°C; Max Operating Temperature: 155°C; Tolerance: 1%; Packaging: Tape and Reel; Composition: Thin Film; Number of Terminations: 2; Max Power Dissipation: 250mW; Features: Moisture Resistant,Anti-Sulfur; Length: 0.079inch; Height: 0.024inch; Width: 0.049inch; Lead Free: Lead Free; Supplier Part Number 1: RNCP0805FTD1K00DKR-ND
footprint R0805
pins: 1, 2

## RT0805BRC0720KL
designator R?, comment R20K
RES SMD 20K OHM 0.1% 1/8W 0805; Manufacturer: Yageo; Manufacturer Part Number: RT0805BRC0720KL; Resistance: 20 kOhms; Power Rating: 125 mW (1/8 W); Temperature Coefficient: 15 PPM / C; Voltage Rating: 150 V; Unit Weight: 0.000194 oz; Supplier 1: Digi-Key; Stock 1: 3964; Pricing 1: 1=0.81, 10=0.674, 100=0.4527, 1000=0.2649, 2500=0.2562 (USD); Product Category: Thin Film Resistors - SMD; RoHS: True; Tolerance: 0.1 %; Case Code - in: 0805; Case Code - mm: 2012; Operating Temperature Range: - 55 C to + 125 C; Series: RT; Packaging: Reel; Brand: Yageo; Height: 0.5 mm; Length: 2 mm; Package / Case: 0805 (2012 metric); Product: Thin Film Resistors SMD; Termination Style: SMD/SMT; Type: High Precision, High Stability; Width: 1.25 mm; ComponentLink1URL: http://www.yageo.com/documents/recent/PYu-RT_1-to-0.01_RoHS_L_9.pdf?src-supplier=Digi-Key; ComponentLink1Description: http://www.yageo.com/documents/recent/PYu-RT_1-to-0.01_RoHS_L_9.pdf?src-supplier=Digi-Key; ComponentLink2URL: http://www.mouser.com/ds/2/447/PYu-RT_1-to-0.05_RoHS_L_4-14067.pdf?src-supplier=Mouser; ComponentLink2Description: http://www.mouser.com/ds/2/447/PYu-RT_1-to-0.05_RoHS_L_4-14067.pdf?src-supplier=Mouser; Supplier Part Number 1: 311-20KNFCT-ND
footprint R0805
pins: 1, 2

## SER1390-333MLD
designator L?, comment IND 33UH 5.95A
COILCRAFT   SER1390-333MLD   INDUCTOR, 33UH, 5.95A, 20%, 15.7MHZ,REEL; SVHC: To Be Advised; Product Range: COILCRAFT - SER1390 Series; Inductance: 33µH; DC Resistance Max: 0.0231ohm; Inductor Case Style: SMD; Core Material: Ferrite; Supplier 1: Mouser; Manufacturer: Coilcraft; Manufacturer Part Number: SER1390-333MLD; Stock 1: 434; Pricing 1: 1=2.66, 10=2.37, 50=2.13, 100=1.9, 200=1.76, 300=1.49, 900=1.4, 1800=1.28 (USD); Inductance Tolerance: ± 20%; DC Current Rating: 5.95A; Self Resonant Frequency: 15.7MHz; MSL: MSL 1 - Unlimited; ComponentLink1URL: http://www.farnell.com/datasheets/1722556.pdf?src-supplier=Element14; ComponentLink1Description: http://www.farnell.com/datasheets/1722556.pdf?src-supplier=Element14; Supplier Part Number 1: 994-SER1390-333MLD
footprint 13X13X9IND
pins: 1, 2

## SilentStepStick_BigTreeTech_TMC2130V1.1
designator SD?, comment Stepper Driver
TMC2130, DRV8825, TB67S109, A4988
footprint DIP16_Stepper
pins: 1 EN, 2 SDI/M0, 3 SCK/M1, 4 CS/M2, 5 SDO/RESET, 6 NC/SLEEP, 7 STP, 8 DIR, 9 GND, 10 VCC, 11 2A, 12 1A, 13 1B, 14 2B, 15 GND, 16 VM

## SK1545-TP
designator D?, comment DIODE SCHOTTKY 45V 15A
DIODE SCHOTTKY 45V 15A DO214AB; Manufacturer: MCC; Manufacturer Part Number: SK1545-TP; Max Surge Current: 275 A; Maximum Reverse Leakage Current: 1 mA; Supplier 1: Digi-Key; Stock 1: 49764; Pricing 1: 1=0.95, 10=0.851, 100=0.6056, 500=0.5134 (USD); Forward Continuous Current: 15 A; Operating Temperature Range: - 55 C to + 125 C; Mounting Style: SMD/SMT; RoHS: Details; Product: Schottky Rectifiers; Peak Reverse Voltage: 45 V; Package / Case: DO-214AB; Packaging: Reel; ComponentLink1URL: http://www.mccsemi.com/up_pdf/SK152-SK1510(HSMC).PDF?src-supplier=Digi-Key; ComponentLink1Description: http://www.mccsemi.com/up_pdf/SK152-SK1510(HSMC).PDF?src-supplier=Digi-Key; ComponentLink2URL: https://www.verical.com/server-webapp/html/getDatasheet?partID=548008&src-supplier=Verical; ComponentLink2Description: https://www.verical.com/server-webapp/html/getDatasheet?partID=548008&src-supplier=Verical; Supplier Part Number 1: SK1545-TPCT-ND
footprint DO214_DIODE
pins: 1, 2

## T495D106M035ASE300
designator C?, comment C 10uF Tantalum
Tantalum Capacitors - Solid SMD 35volts 10uF 20% ESR=300mOhms; Manufacturer: KEMET; Manufacturer Part Number: T495D106M035ASE300; Mfr Case Code: D; Voltage Rating: 35 V; Voltage Rating DC: 35 VDC; Unit Weight: 0.023634 oz; Supplier 1: Mouser; Stock 1: 0; Product Category: Tantalum Capacitors - Solid SMD; RoHS: True; Brand: Kemet; Capacitance: 10 uF; Tolerance: 20 %; ESR: 300 mOhms; Case Code - in: 2917; Case Code - mm: 7343; Height: 4.3 mm; Operating Temperature Range: - 55 C to + 125 C; Series: T495; Length: 7.3 mm; Maximum Operating Temperature: + 125 C; Minimum Operating Temperature: - 55 C; Package / Case: 2917 (7343 metric); Packaging: Reel; Product: Tantalum Solid Low ESR Automotive Grade; Termination Style: SMD/SMT; Width: 4.3 mm; ComponentLink1URL: http://www.mouser.com/ds/2/212/kemet_kem_t2071_t495_cots-544881.pdf?src-supplier=Mouser; ComponentLink1Description: http://www.mouser.com/ds/2/212/kemet_kem_t2071_t495_cots-544881.pdf?src-supplier=Mouser; Supplier Part Number 1: 80-T495D106M035AS
footprint C7343
pins: 1, 2
text: +

## T510X107M020ATE040
designator C?, comment C 100uF Tantalum
CAP TANT 100UF 20V 20% 2917; Manufacturer: KEMET; Manufacturer Part Number: T510X107M020ATE040; Manufacturer Size Code: X; Product Range: T510 Series; Capacitance: 100µF; Tantalum Capacitor Case: 2917 [7343 Metric]; ESR: 0.04ohm; SVHC: No SVHC (15-Jun-2015); Supplier 1: Digi-Key; Stock 1: 2936; Pricing 1: 1=7.97, 10=7.084, 100=5.6672 (USD); Capacitance Tolerance: ± 20%; Voltage Rating: 20V; Operating Temperature Max: 125°C; Operating Temperature Min: -55°C; Packaging: Tape & Reel; ComponentLink1URL: https://api.kemet.com/component-edge/download/datasheet/T510X107M020ATE040.pdf?src-supplier=Digi-Key; ComponentLink1Description: https://api.kemet.com/component-edge/download/datasheet/T510X107M020ATE040.pdf?src-supplier=Digi-Key; ComponentLink2URL: https://search.kemet.com/component-edge/download/datasheet/T510X107M020ATE040.pdf?src-supplier=Digi-Key; ComponentLink2Description: https://search.kemet.com/component-edge/download/datasheet/T510X107M020ATE040.pdf?src-supplier=Digi-Key; ComponentLink3URL: http://www.farnell.com/datasheets/1744577.pdf?src-supplier=Element14; ComponentLink3Description: http://www.farnell.com/datasheets/1744577.pdf?src-supplier=Element14; Supplier Part Number 1: 399-4651-1-ND
footprint C7343
pins: 1, 2
text: +

## XL4015
designator XL?, comment XL4015 Buck Converter
XL Semi Buck Converter, not available in USA
footprint TO263-5L
pins: 1 GND, 2 FB, 3 SW, 4 VC, 5 VIN

## XL6019
designator XL?, comment XL6019 Boost Converter
XL Semi Boost Converter, not available in USA
footprint TO263-5L
pins: 1 GND, 2 EN, 3 SW, 4 VIN, 5 FB